# Altium integrated library LTC4015EUHF_PBF.IntLib: 1 symbol
Pins are listed as number, name and electrical type; pins without a type are passive.

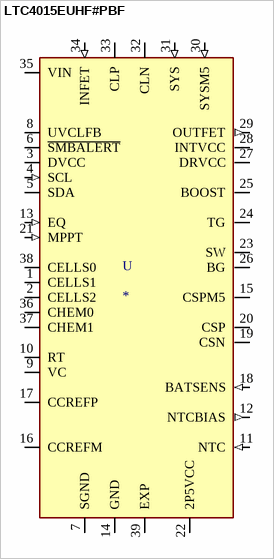
[diagram p0: symbol LTC4015EUHF#PBF]

## LTC4015EUHF#PBF
designator U
Charger IC Multi-Chemistry 38-QFN _5x7_; MP: LTC4015EUHF#PBF; MF: Analog Devices; Price: None; SnapEDA_Link: https://www.snapeda.com/parts/LTC4015EUHF%23PBF/Analog%20Devices/view-part/2603016/?ref=snap; Availability: Unavailable; Value: *; Package: QFN -38 Analog Devices
footprint QFN50P700X500X80-39N
pins: 1 CELLS1 (io), 2 CELLS2 (io), 3 DVCC (power), 4 SCL (in), 5 SDA (io), 6 ~{SMBALERT} (io), 7 SGND (power), 8 UVCLFB (io), 9 VC (power), 10 RT (power), 11 NTC (in), 12 NTCBIAS (out), 13 EQ (in), 14 GND (power), 15 CSPM5 (io), 16 CCREFM (io), 17 CCREFP (io), 18 BATSENS (in), 19 CSN (io), 20 CSP (io), 21 MPPT (in), 22 2P5VCC (power), 23 SW (io), 24 TG (io), 25 BOOST (io), 26 BG (io), 27 DRVCC (power), 28 INTVCC (power), 29 OUTFET (out), 30 SYSM5 (in), 31 SYS (in), 32 CLN (io), 33 CLP (io), 34 INFET (in), 35 VIN (power), 36 CHEM0 (io), 37 CHEM1 (io), 38 CELLS0 (io), 39 EXP